# EAGLE library part 115Q-BCA0 (library RadioShield)
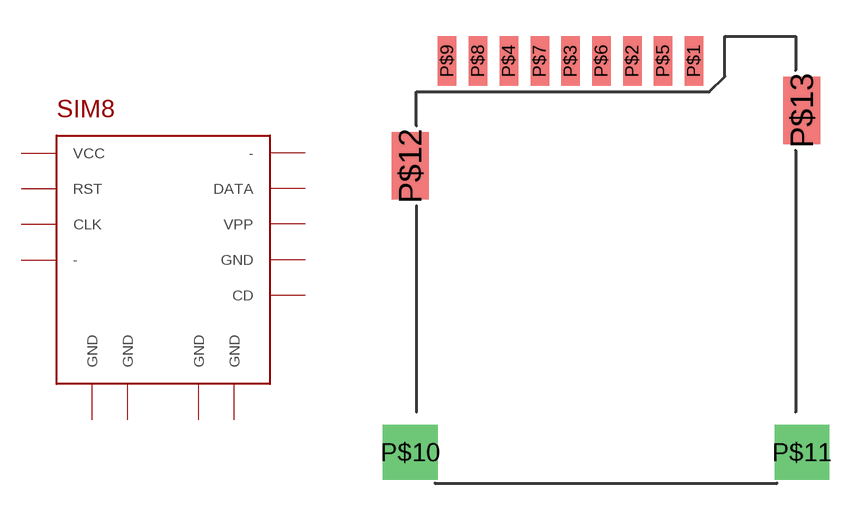
[diagram p6: symbol with the pads of 115Q-BCA0; footprint 115Q-BCA0]

Designator prefix -

## 115Q-BCA0  [115Q-BCA0]
P$1  VCC
P$2  RST
P$3  CLK
P$4  -
P$5  GND
P$6  VPP
P$7  DATA
P$8  -
P$9  CD
P$10  GND
P$11  GND
P$12  GND
P$13  GND

## Footprint 115Q-BCA0 (pad centres in mm)
smd 0.762 x 2.032: P$1 3.81,9.271; P$2 1.27,9.271; P$3 -1.27,9.271; P$4 -3.81,9.271; P$5 2.54,9.271; P$6 0,9.271; P$7 -2.54,9.271; P$8 -5.08,9.271; P$9 -6.35,9.271
drill 1.5 square: P$10 -7.874,-6.858; P$11 8.255,-6.858
smd 1.524 x 2.794: P$12 -7.874,4.953; P$13 8.255,7.239